# Altium schematic symbol library 673298040.SchLib: 2 symbols
Pins are listed as number, name and electrical type; pins without a type are passive.

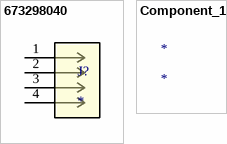
[diagram p0: symbols 673298040 to Component_1]

## 673298040
designator J?
No Description Available; Mfr_Name: Molex Connector Corporation; RefDes: RefDes; Type: Type
footprint CON01126_4_MOL
pins: 1, 2, 3, 4

## Component_1
designator *